# Altium footprint library 60W-PD.PcbLib: 70 footprints (part 5 of 5)
Each footprint in its own frame and in the unit in brackets; x right, y up, seen from the top. Pads: shape width x height; smd on the part's side, far side on the other; paste and mask are expansions set on the pad; w line width, h text height; cw(c..) or ccw(c..) is an arc to the next point about the centre after c.
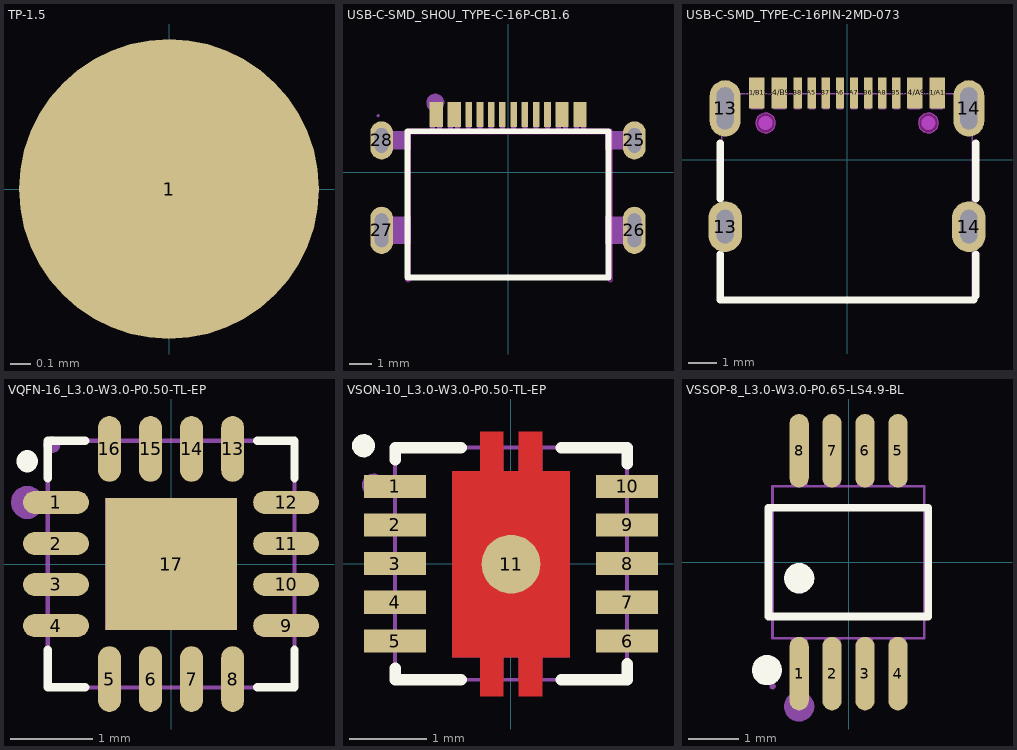
[diagram p4: the footprints below, top view; thin cyan lines are the x and y axes]

## TP-1.5 [mm]
pads (1):
  round 1.5 / inner round 0 / far side round 0 all layers, no hole paste-2539.97 mask-2539.97: 1(0,0)
Top Paste:
  circle w0.75: c0,0 r0.375
Bottom Solder:
  circle w0: c0,0 r0

## USB-C-SMD_SHOU_TYPE-C-16P-CB1.6 [mil]
pads (20):
  oval 39.4x66.9 hole 23.6 slot 43.3 at 90 deg paste-99999 mask+2: 25(221.2,56.1) 28(-221.3,56.1)
  oval 39.4x82.7 hole 23.6 slot 59.1 at 90 deg paste-99999 mask+2: 26(221.2,-101.3) 27(-221.3,-101.3)
  rect 11.8x43.3 smd paste-3937 mask+2: A1(-131.9,101.4) A4(-100.4,101.4) A5(-49.2,101.4) A6(-9.9,101.4) A7(9.8,101.4) A8(49.2,101.4) A9(100.4,101.4) A12(131.9,101.4) B1(120.1,101.4) B4(88.6,101.4) B5(68.9,101.4) B6(29.5,101.4) B7(-29.5,101.4) B8(-68.9,101.4) B9(-88.6,101.4) B12(-120.1,101.4)
Top Overlay:
  lines w10: -176,-184 176,-184 176,71.9 -176,71.9 -176,-184
Top Paste:
  drawing of 16 lines, arcs and shapes, not listed
Keep-Out Layer:
  lines w10: -175.3,-188 -175.3,71.8 179.1,71.8 179.1,-188
Mechanical 2:
  lines w15.7: -135.1,122.1 -134.8,124.5 -133.6,126.7 -131.9,128.5 -129.7,129.6 -127.3,130 -124.8,129.6 -122.6,128.5 -120.9,126.7 -119.8,124.5 -119.4,122.1 -119.8,119.7 -120.9,117.5 -122.6,115.7 -124.8,114.6 -127.3,114.2 -129.7,114.6 -131.9,115.7 -133.6,117.5 -134.8,119.7 -135.1,122.1
Mechanical 6:
  lines w2: -176,-184.1 176,-184.1 176,71.8 -176,71.8 -176,-184.1
Mechanical 7:
  region: 227.1,-125.2 170.1,-125.2 170.1,-77.9 227.1,-77.9
  region: 227.3,40.2 170.3,40.2 170.3,71.7 227.3,71.7
  region: -169.9,-124.8 -227,-124.8 -227,-77.5 -169.9,-77.5
  region: -169.9,40.2 -227,40.2 -227,71.7 -169.9,71.7
Mechanical 8:
  region: -224.8,99.4 -225.2,98.1 -226.2,97.2 -227.5,97 -228.7,97.6 -229.5,98.7 -229.5,100.1 -228.7,101.2 -227.5,101.7 -226.2,101.5 -225.2,100.7
Mechanical 9:
  region: 215.3,-77.7 227.1,-77.7 227.1,-125 215.3,-125
  region: -227.2,-77.7 -215.4,-77.7 -215.4,-125 -227.2,-125
  region: 215.3,71.9 227.1,71.9 227.1,40.4 215.3,40.4
  region: -227.2,71.9 -215.4,71.9 -215.4,40.4 -227.2,40.4
  region: 127.9,99.4 135.8,99.4 135.8,67.9 127.9,67.9
  region: 116.1,99.4 124,99.4 124,67.9 116.1,67.9
  region: 96.4,99.4 104.3,99.4 104.3,67.9 96.4,67.9
  region: 84.6,99.4 92.5,99.4 92.5,67.9 84.6,67.9
  region: 64.9,99.4 72.8,99.4 72.8,67.9 64.9,67.9
  region: 45.3,99.4 53.1,99.4 53.1,67.9 45.3,67.9
  region: 25.6,99.4 33.4,99.4 33.4,67.9 25.6,67.9
  region: 5.9,99.4 13.8,99.4 13.8,67.9 5.9,67.9
  region: -13.8,99.4 -5.9,99.4 -5.9,67.9 -13.8,67.9
  region: -33.5,99.4 -25.6,99.4 -25.6,67.9 -33.5,67.9
  region: -53.2,99.4 -45.3,99.4 -45.3,67.9 -53.2,67.9
  region: -72.9,99.4 -65,99.4 -65,67.9 -72.9,67.9
  region: -92.5,99.4 -84.7,99.4 -84.7,67.9 -92.5,67.9
  region: -104.3,99.4 -96.5,99.4 -96.5,67.9 -104.3,67.9
  region: -124,99.4 -116.2,99.4 -116.2,67.9 -124,67.9
  region: -135.8,99.4 -128,99.4 -128,67.9 -135.8,67.9

## USB-C-SMD_TYPE-C-16PIN-2MD-073 [mil]
pads (16):
  oval 47.2x70.9 hole 23.6 slot 47.2 at 90 deg paste-99999 mask+2: 13(-170.3,-93.5) 14(170.3,-93.5)
  oval 43.3x78.7 hole 23.6 slot 59.1 at 90 deg paste-99999 mask+2: 13(-170.3,71.8) 14(170.3,71.8)
  rect 21.7x43.3 smd paste-3937 mask+2: A1/B12(-126,93.5) A4/B9(-94.5,93.5) B1/A12(126,93.5) B4/A9(94.5,93.5)
  rect 11.8x43.3 smd paste-3937 mask+2: A5(-49.2,93.5) A6(-9.8,93.5) A7(9.8,93.5) A8(49.2,93.5) B5(68.9,93.5) B6(29.5,93.5) B7(-29.5,93.5) B8(-68.9,93.5)
Top Overlay:
  lines w10: -177.2,-132.1 -177.2,-195.9 177.2,-195.9 ; -177.2,-54.9 -177.2,23.4 ; 180,-190 180,-132 ; 180,-55 180,23.5
Top Paste:
  drawing of 16 lines, arcs and shapes, not listed
Keep-Out Layer:
  circle w0.1: c-113.8,51.4 r13.8
  circle w0.1: c113.8,51.4 r13.8
  region: -100,51.4 -100,48.66 -102.1,43.58 -105.98,39.7 -111.06,37.6 -116.54,37.6 -121.62,39.7 -125.5,43.58 -127.6,48.66 -127.6,51.4 -127.6,54.14 -125.5,59.22 -121.62,63.1 -116.54,65.2 -111.06,65.2 -105.98,63.1 -102.1,59.22 -100,54.14
  region: -100,51.4 -100,48.66 -102.1,43.58 -105.98,39.7 -111.06,37.6 -116.54,37.6 -121.62,39.7 -125.5,43.58 -127.6,48.66 -127.6,51.4 -127.6,54.14 -125.5,59.22 -121.62,63.1 -116.54,65.2 -111.06,65.2 -105.98,63.1 -102.1,59.22 -100,54.14
  region: 127.6,51.4 127.6,48.66 125.5,43.58 121.62,39.7 116.54,37.6 111.06,37.6 105.98,39.7 102.1,43.58 100,48.66 100,51.4 100,54.14 102.1,59.22 105.98,63.1 111.06,65.2 116.54,65.2 121.62,63.1 125.5,59.22 127.6,54.14
  region: 127.6,51.4 127.6,48.66 125.5,43.58 121.62,39.7 116.54,37.6 111.06,37.6 105.98,39.7 102.1,43.58 100,48.66 100,51.4 100,54.14 102.1,59.22 105.98,63.1 111.06,65.2 116.54,65.2 121.62,63.1 125.5,59.22 127.6,54.14
Mechanical 1:
  circle w0.1: c-113.8,51.4 r13.8
  circle w0.1: c113.8,51.4 r13.8
Mechanical 2:
  circle w9.8: c-113.8,51.4 r4.9
  circle w9.8: c113.8,51.4 r4.9
Mechanical 6:
  lines w2: -175.2,-196.9 -175.2,92.5 175.2,92.5 175.2,-196.9 -175.2,-196.9
Mechanical 8:
  region: -172.8,104.3 -172.8,103.31 -174.21,101.9 -176.19,101.9 -177.6,103.31 -177.6,104.3 -177.6,105.29 -176.19,106.7 -174.21,106.7 -172.8,105.29
Mechanical 9:
  region: -72.8,104.3 -65,104.3 -65,70.8 -72.8,70.8
  region: -33.5,104.3 -25.6,104.3 -25.6,70.8 -33.5,70.8
  region: -53.1,104.3 -45.3,104.3 -45.3,70.8 -53.1,70.8
  region: -13.8,104.3 -5.9,104.3 -5.9,70.8 -13.8,70.8
  region: 5.9,104.3 13.8,104.3 13.8,70.8 5.9,70.8
  region: 25.6,104.3 33.5,104.3 33.5,70.8 25.6,70.8
  region: 45.3,104.3 53.2,104.3 53.2,70.8 45.3,70.8
  region: 65,104.3 72.8,104.3 72.8,70.8 65,70.8
  region: -133.9,104.3 -118.1,104.3 -118.1,70.8 -133.9,70.8
  region: -102.4,104.3 -86.6,104.3 -86.6,70.8 -102.4,70.8
  region: 86.6,104.3 102.4,104.3 102.4,70.8 86.6,70.8
  region: 118.1,104.3 133.9,104.3 133.9,70.8 118.1,70.8
  region: -175.2,92.5 -165.4,92.5 -165.4,49.2 -175.2,49.2
  region: 165.4,92.5 175.2,92.5 175.2,49.2 165.4,49.2
  region: -175.2,-79.7 -165.4,-79.7 -165.4,-107.3 -175.2,-107.3
  region: 165.4,-79.7 175.2,-79.7 175.2,-107.3 165.4,-107.3
3D body "Unnamed-EasyEDA PCB Model~3Ghk.step": height 128.35, standoff -35.43, extent -175.99,-196.46 175.99,101.97

## VQFN-16_L3.0-W3.0-P0.50-TL-EP [mil]
pads (17):
  oval 31.5x11 smd paste-3937 mask+2: 1(-55.1,29.5) 2(-55.1,9.8) 3(-55.1,-9.8) 4(-55.1,-29.5) 9(55.1,-29.5) 10(55.1,-9.8) 11(55.1,9.8) 12(55.1,29.5)
  oval 11x31.5 smd paste-3937 mask+2: 5(-29.5,-55.1) 6(-9.8,-55.1) 7(9.8,-55.1) 8(29.5,-55.1) 13(29.5,55.1) 14(9.8,55.1) 15(-9.8,55.1) 16(-29.5,55.1)
  rect 63x63 smd paste-3937 mask+2: 17(0,0)
Top Overlay:
  lines w4: -59,-41.1 -59,-59.1 -41.1,-59.1 ; -59,41.1 -59,59 -41.1,59 ; 41.2,-59.1 59.1,-59.1 59.1,-41.1 ; 41.2,59 59.1,59 59.1,41.1
  lines w9.8: -68.5,49.1 -68.8,48.8 -69.2,49 -69.2,49.4 -68.8,49.6 -68.5,49.2
Top Paste:
  drawing of 17 lines, arcs and shapes, not listed
Mechanical 2:
  lines w7.9: -72.8,29.5 -72.4,31.2 -71.3,32.6 -69.7,33.3 -68,33.3 -66.4,32.6 -65.3,31.2 -64.9,29.5 -65.3,27.8 -66.4,26.4 -68,25.6 -69.7,25.6 -71.3,26.4 -72.4,27.8 -72.8,29.5
Mechanical 6:
  lines w2: -59,-59.1 59.1,-59.1 59.1,59 -59,59 -59,-59.1
Mechanical 8:
  region: -53.1,57 -53.5,55.3 -54.6,54 -56.2,53.2 -57.9,53.2 -59.5,54 -60.6,55.3 -61,57 -60.6,58.8 -59.5,60.1 -57.9,60.9 -56.2,60.9 -54.6,60.1 -53.5,58.8
Mechanical 9:
  region: -34.4,59 -24.5,59 -24.5,43.3 -34.4,43.3
  region: -14.7,59 -4.8,59 -4.8,43.3 -14.7,43.3
  region: 4.9,59 14.8,59 14.8,43.3 4.9,43.3
  region: 24.6,59 34.5,59 34.5,43.3 24.6,43.3
  region: 59.1,34.4 59.1,24.5 43.3,24.5 43.3,34.4
  region: 59.1,14.7 59.1,4.8 43.3,4.8 43.3,14.7
  region: 59.1,-4.9 59.1,-14.8 43.3,-14.8 43.3,-4.9
  region: 59.1,-24.6 59.1,-34.5 43.3,-34.5 43.3,-24.6
  region: 24.6,-43.3 34.5,-43.3 34.5,-59.1 24.6,-59.1
  region: 4.9,-43.3 14.8,-43.3 14.8,-59.1 4.9,-59.1
  region: -14.7,-43.3 -4.8,-43.3 -4.8,-59.1 -14.7,-59.1
  region: -34.4,-43.3 -24.5,-43.3 -24.5,-59.1 -34.4,-59.1
  region: -43.3,-24.6 -43.3,-34.5 -59,-34.5 -59,-24.6
  region: -43.3,-4.9 -43.3,-14.8 -59,-14.8 -59,-4.9
  region: -43.3,14.7 -43.3,4.8 -59,4.8 -59,14.7
  region: -43.3,34.4 -43.3,24.5 -59,24.5 -59,34.4
  region: -31.5,31.5 31.5,31.5 31.5,-31.5 -31.5,-31.5

## VSON-10_L3.0-W3.0-P0.50-TL-EP [mil]
pads (11):
  rect 31.5x11.8 smd: 1(-59,39.3) 2(-59,19.7) 3(-59,0) 4(-59,-19.7) 5(-59,-39.4) 6(59.1,-39.4) 7(59.1,-19.7) 8(59.1,0) 9(59.1,19.7) 10(59.1,39.3)
  round 29.9 smd: 11(0.1,-0.3)
Top Layer:
  region: -29.8,46.9 -15.6,46.9 -15.6,67.1 -3.8,67.1 -3.8,46.9 4,46.9 4,67.1 15.9,67.1 15.9,46.9 30,46.9 30,-47.6 15.9,-47.6 15.9,-67.5 4,-67.5 4,-47.6 -3.8,-47.6 -3.8,-67.5 -15.6,-67.5 -15.6,-47.6 -29.8,-47.6 -29.8,34.9
Top Overlay:
  lines w5.9: -58.9,-53.3 -58.9,-59.2 -25.4,-59.2 ; -58.9,52.9 -58.9,58.9 -25.4,58.9 ; 25.7,-59.2 59.2,-59.2 59.2,-51.1 ; 25.7,58.9 59.2,58.9 59.2,50.8 ; -77.8,59.3 -77.2,58 -76,57.2 -74.6,57 -73.3,57.5 -72.3,58.6 -72,60 -72.3,61.3 -73.3,62.4 -74.6,62.9 -76,62.7 -77.2,61.9 -77.8,60.7 -77.8,59.3
Mechanical 2:
  lines w5.9: -72.8,39.3 -72.2,38 -71,37.2 -69.6,37 -68.3,37.5 -67.3,38.6 -67,40 -67.3,41.3 -68.3,42.4 -69.6,42.9 -71,42.7 -72.2,41.9 -72.8,40.7 -72.8,39.3
Mechanical 6:
  lines w2: -59,-59.1 -59,59 59.1,59 59.1,-59.1 -59,-59.1
Mechanical 8:
  region: -55.5,57.8 -55.8,56.6 -56.8,55.7 -58.2,55.5 -59.4,56.1 -60.1,57.2 -60.1,58.5 -59.4,59.6 -58.2,60.2 -56.8,60 -55.8,59.1
Mechanical 9:
  region: 43.4,24.4 59.1,24.4 59.1,14.9 43.4,14.9
  region: 43.4,44.1 59.1,44.1 59.1,34.6 43.4,34.6
  region: 43.4,-15 59.1,-15 59.1,-24.4 43.4,-24.4
  region: 43.4,-34.7 59.1,-34.7 59.1,-44.1 43.4,-44.1
  region: -59,-34.7 -43.3,-34.7 -43.3,-44.1 -59,-44.1
  region: -59,-15 -43.3,-15 -43.3,-24.4 -59,-24.4
  region: -59,24.4 -43.3,24.4 -43.3,14.9 -59,14.9
  region: -59,44.1 -43.3,44.1 -43.3,34.6 -59,34.6
  region: 43.4,4.7 59.1,4.7 59.1,-4.7 43.4,-4.7
  region: -43.3,-4.7 -59,-4.7 -59,4.7 -43.3,4.7
  region: -29.8,46.9 -15.6,46.9 -15.6,59 -3.8,59 -3.8,46.9 4,46.9 4,59 15.9,59 15.9,46.9 30,46.9 30,-47.6 15.9,-47.6 15.9,-59.1 4,-59.1 4,-47.6 -3.8,-47.6 -3.8,-59.1 -15.6,-59.1 -15.6,-47.6 -29.8,-47.6 -29.8,34.9

## VSSOP-8_L3.0-W3.0-P0.65-LS4.9-BL [mil]
pads (8):
  oval 15x57.1 smd: 1(-38.4,-86.6) 2(-12.8,-86.6) 3(12.8,-86.6) 4(38.4,-86.6) 5(38.4,86.6) 6(12.8,86.6) 7(-12.8,86.6) 8(-38.4,86.6)
Top Overlay:
  lines w6: -62.1,-42.2 -62.1,42.2 62,42.2 62,-42.2 -62.1,-42.2
  lines w11.8: -69.3,-83.9 -68.9,-85.9 -67.9,-87.7 -66.3,-89 -64.4,-89.7 -62.4,-89.7 -60.4,-89 -58.9,-87.7 -57.8,-85.9 -57.5,-83.9 -57.8,-81.9 -58.9,-80.1 -60.4,-78.8 -62.4,-78.1 -64.4,-78.1 -66.3,-78.8 -67.9,-80.1 -68.9,-81.9 -69.3,-83.9 ; -44.3,-12.5 -44,-14.6 -42.9,-16.3 -41.4,-17.7 -39.4,-18.4 -37.4,-18.4 -35.5,-17.7 -33.9,-16.3 -32.9,-14.6 -32.5,-12.5 -32.9,-10.5 -33.9,-8.7 -35.5,-7.4 -37.4,-6.7 -39.4,-6.7 -41.4,-7.4 -42.9,-8.7 -44,-10.5 -44.3,-12.5
Mechanical 2:
  lines w11.8: -44.3,-112.2 -44,-114.2 -42.9,-116 -41.4,-117.3 -39.4,-118 -37.4,-118 -35.5,-117.3 -33.9,-116 -32.9,-114.2 -32.5,-112.2 -32.9,-110.2 -33.9,-108.4 -35.5,-107.1 -37.4,-106.4 -39.4,-106.4 -41.4,-107.1 -42.9,-108.4 -44,-110.2 -44.3,-112.2
Mechanical 6:
  lines w2: -59.1,-59 -59.1,59.1 59,59.1 59,-59 -59.1,-59
Mechanical 7:
  region: 32.2,58.7 32.2,75.2 44.6,75.2 44.6,58.7
  region: 6.6,58.7 6.6,75.2 19,75.2 19,58.7
  region: -19,58.7 -19,75.2 -6.6,75.2 -6.6,58.7
  region: -44.6,58.7 -44.6,75.2 -32.2,75.2 -32.2,58.7
  region: 32.2,-75.2 32.2,-58.6 44.6,-58.6 44.6,-75.2
  region: 6.6,-75.2 6.6,-58.6 19,-58.6 19,-75.2
  region: -19,-75.2 -19,-58.6 -6.6,-58.6 -6.6,-75.2
  region: -44.6,-75.2 -44.6,-58.6 -32.2,-58.6 -32.2,-75.2
Mechanical 8:
  region: -56.7,-96.4 -57.1,-97.7 -58.1,-98.6 -59.4,-98.8 -60.6,-98.2 -61.3,-97.1 -61.3,-95.8 -60.6,-94.7 -59.4,-94.1 -58.1,-94.3 -57.1,-95.2
Mechanical 9:
  region: 32.2,74.8 32.2,96.5 44.6,96.5 44.6,74.8
  region: 6.6,74.8 6.6,96.5 19,96.5 19,74.8
  region: -19,74.8 -19,96.5 -6.6,96.5 -6.6,74.8
  region: -44.6,74.8 -44.6,96.5 -32.2,96.5 -32.2,74.8
  region: 32.2,-96.4 32.2,-74.8 44.6,-74.8 44.6,-96.4
  region: 6.6,-96.4 6.6,-74.8 19,-74.8 19,-96.4
  region: -19,-96.4 -19,-74.8 -6.6,-74.8 -6.6,-96.4
  region: -44.6,-96.4 -44.6,-74.8 -32.2,-74.8 -32.2,-96.4